# EAGLE library part TLP627 (library sibosop)
Toshiba 4 unit photocoupler
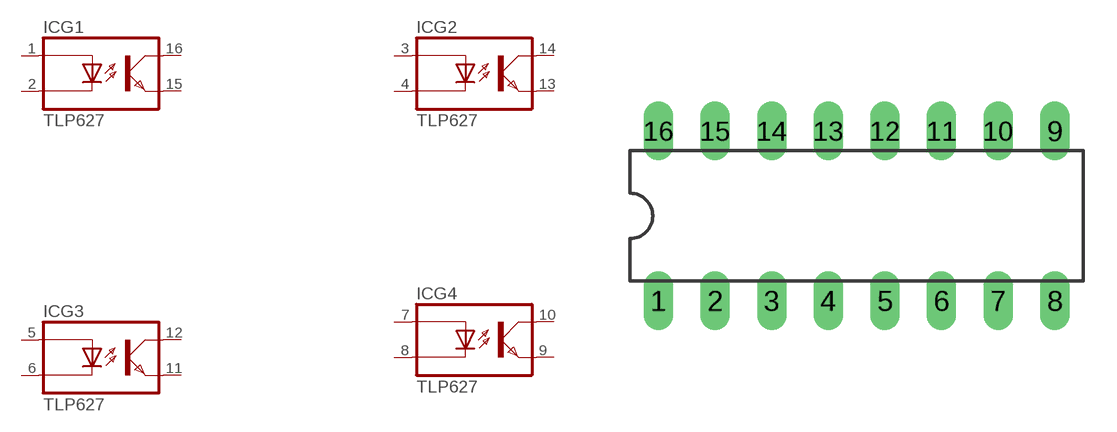
[diagram p5: symbol with the pads of DIP16; footprint DIP16]

Designator prefix IC; gates G1=TLP627 G2=TLP627 G3=TLP627 G4=TLP627

## TLP627  [DIP16]
1  G1:AN  pas
2  G1:CA  pas
3  G2:AN  pas
4  G2:CA  pas
5  G3:AN  pas
6  G3:CA  pas
7  G4:AN  pas
8  G4:CA  pas
9  G4:EM  pas
10  G4:CO  pas
11  G3:EM  pas
12  G3:CO  pas
13  G2:EM  pas
14  G2:CO  pas
15  G1:EM  pas
16  G1:CO  pas

## Footprint DIP16 (pad centres in mm)
drill 0.813 long: 1 -8.89,-3.81; 2 -6.35,-3.81; 3 -3.81,-3.81; 4 -1.27,-3.81; 5 1.27,-3.81; 6 3.81,-3.81; 7 6.35,-3.81; 8 8.89,-3.81; 9 8.89,3.81; 10 6.35,3.81; 11 3.81,3.81; 12 1.27,3.81; 13 -1.27,3.81; 14 -3.81,3.81; 15 -6.35,3.81; 16 -8.89,3.81